# Altium footprint library RFIDComponentLibrary.PcbLib: 21 footprints (part 1 of 2)
Each footprint in its own frame and in the unit in brackets; x right, y up, seen from the top. Pads: shape width x height; smd on the part's side, far side on the other; paste and mask are expansions set on the pad; w line width, h text height; cw(c..) or ccw(c..) is an arc to the next point about the centre after c.
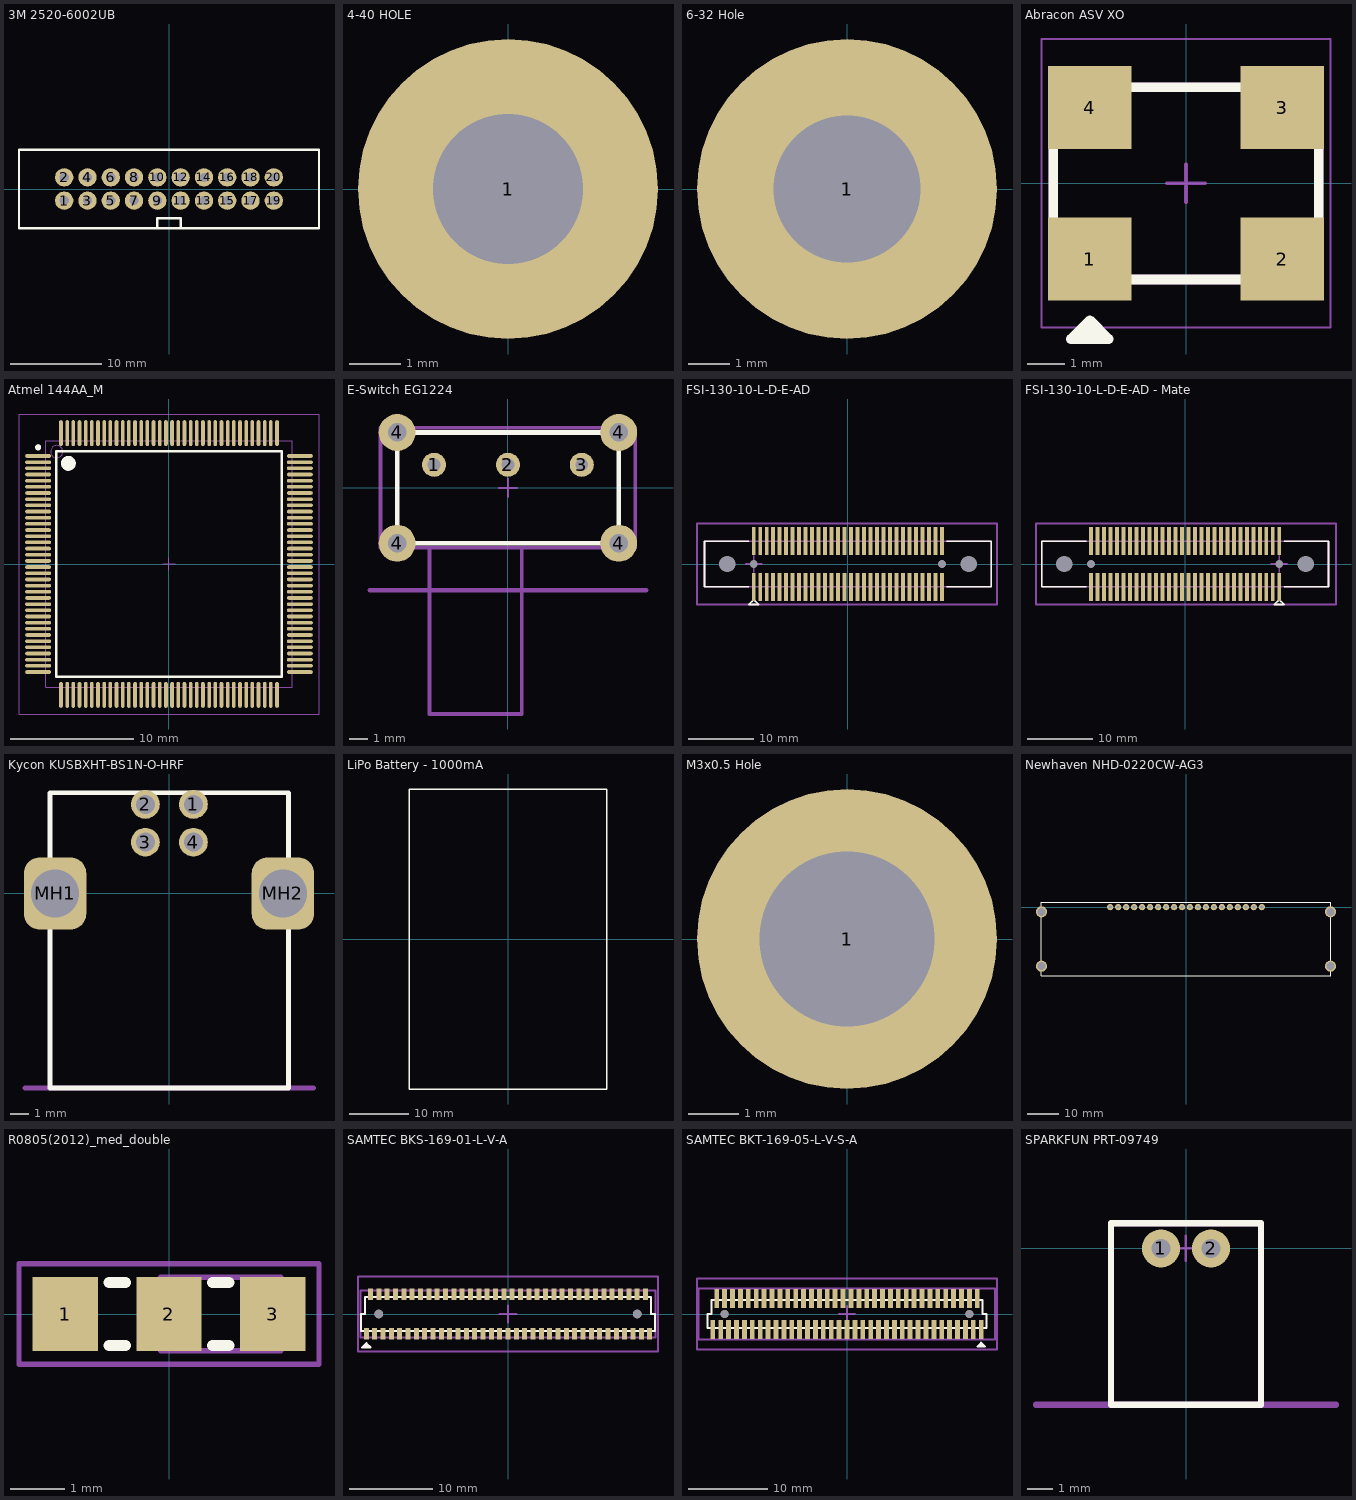
[diagram p0: the footprints below, top view; thin cyan lines are the x and y axes]

## 3M 2520-6002UB [mm] "SHROUDED HEADER 20 POS STRAIGHT"
height 9.91
pads (20):
  round 2 hole 1: 1(-11.43,-1.27) 2(-11.43,1.27) 3(-8.89,-1.27) 4(-8.89,1.27) 5(-6.35,-1.27) 6(-6.35,1.27) 7(-3.81,-1.27) 8(-3.81,1.27) 9(-1.27,-1.27) 10(-1.27,1.27) 11(1.27,-1.27) 12(1.27,1.27) 13(3.81,-1.27) 14(3.81,1.27) 15(6.35,-1.27) 16(6.35,1.27) 17(8.89,-1.27) 18(8.89,1.27) 19(11.43,-1.27) 20(11.43,1.27)
Top Overlay:
  lines w0.254: -1.27,-4.295 -1.27,-3.175 1.27,-3.175 1.27,-4.295 ; 14.224,4.295 16.36,4.295 16.36,-4.295 -16.36,-4.295 -16.36,4.295 14.986,4.295
3D body: height 2.34, standoff 0, extent -16.36,-4.295 16.36,4.295
3D body: height 9.91, standoff 2.34, extent 15.24,-4.295 16.36,4.295
3D body: height 9.91, standoff 2.34, extent -16.36,-4.295 -15.24,4.295
3D body: height 9.91, standoff 2.34, extent -15.24,3.175 15.24,4.295
3D body: height 9.91, standoff 0, extent -11.739,0.96 -11.119,1.58
3D body: height 9.91, standoff 0, extent -11.739,-1.58 -11.119,-0.96
3D body: height 9.91, standoff 0, extent -9.199,0.96 -8.579,1.58
3D body: height 9.91, standoff 0, extent -9.199,-1.58 -8.579,-0.96
3D body: height 9.91, standoff 0, extent -6.659,0.96 -6.039,1.58
3D body: height 9.91, standoff 0, extent -6.659,-1.58 -6.039,-0.96
3D body: height 9.91, standoff 0, extent -4.119,0.96 -3.499,1.58
3D body: height 9.91, standoff 0, extent -4.119,-1.58 -3.499,-0.96
3D body: height 9.91, standoff 0, extent -1.579,0.96 -0.959,1.58
3D body: height 9.91, standoff 0, extent -1.579,-1.58 -0.959,-0.96
3D body: height 9.91, standoff 0, extent 0.961,0.96 1.581,1.58
3D body: height 9.91, standoff 0, extent 0.961,-1.58 1.581,-0.96
3D body: height 9.91, standoff 0, extent 3.501,0.96 4.121,1.58
3D body: height 9.91, standoff 0, extent 3.501,-1.58 4.121,-0.96
3D body: height 9.91, standoff 0, extent 6.041,-1.58 6.661,-0.96
3D body: height 9.91, standoff 0, extent 6.041,0.96 6.661,1.58
3D body: height 9.91, standoff 0, extent 8.581,0.96 9.201,1.58
3D body: height 9.91, standoff 0, extent 8.581,-1.58 9.201,-0.96
3D body: height 9.91, standoff 0, extent 11.121,0.96 11.741,1.58
3D body: height 9.91, standoff 0, extent 11.121,-1.58 11.741,-0.96
3D body: height 9.91, standoff 2.34, extent -15.24,-4.295 -2.095,-3.175
3D body: height 9.91, standoff 2.34, extent 2.095,-4.295 15.24,-3.175

## 4-40 HOLE [mil] "A hole"
pads (1):
  round 230 hole 115: 1(0,0)

## 6-32 Hole [mil] "A hole"
pads (1):
  round 285 hole 140: 1(0,0)

## Abracon ASV XO [mm] "OSCILLATOR 16.000MHZ 3.3V SMD"
height 1.8
pads (4):
  rect 2.2x2.2 smd: 1(-2.54,-2) 2(2.54,-2) 3(2.54,2) 4(-2.54,2)
Top Overlay:
  lines w0.254: -2.64,-4.11 -2.34,-4.01 -2.54,-3.81 -3.04,-4.11 ; -3.04,-4.11 -2.54,-3.61 -2.04,-4.11 -3.04,-4.11 ; -3.5,-2.54 3.5,-2.54 3.5,2.54 -3.5,2.54 -3.5,-2.54
Mechanical 1:
  lines w0.254: -3.5,-2.54 ccw(c-3.5,-2.54) -3.5,-2.54 ; -3.5,-2.54 3.5,-2.54 ; -3.5,-2.54 -3.5,2.54 ; -3.5,2.54 ccw(c-3.5,2.54) -3.5,2.54 ; -3.5,2.54 3.5,2.54 ; 3.5,-2.54 ccw(c3.5,-2.54) 3.5,-2.54 ; 3.5,-2.54 3.5,2.54 ; 3.5,2.54 ccw(c3.5,2.54) 3.5,2.54
Mechanical 15:
  lines w0.05: -3.81,-3.81 -3.81,3.81 3.81,3.81 3.81,-3.81 -3.81,-3.81
  lines w0.1: -0.5,0 0.5,0 ; 0,-0.5 0,0.5
3D body: height 1.8, standoff 0, extent -3.5,-2.54 3.5,2.54

## Atmel 144AA_M [mm] "Thin QFP, 144-Leads, Body 20x20mm, Pitch 0.5mm, IPC Low Density"
height 1.6
pads (144):
  oval 2.1x0.3 smd: 1(-10.6,8.75) 2(-10.6,8.25) 3(-10.6,7.75) 4(-10.6,7.25) 5(-10.6,6.75) 6(-10.6,6.25) 7(-10.6,5.75) 8(-10.6,5.25) 9(-10.6,4.75) 10(-10.6,4.25) 11(-10.6,3.75) 12(-10.6,3.25) 13(-10.6,2.75) 14(-10.6,2.25) 15(-10.6,1.75) 16(-10.6,1.25) 17(-10.6,0.75) 18(-10.6,0.25) 19(-10.6,-0.25) 20(-10.6,-0.75) 21(-10.6,-1.25) 22(-10.6,-1.75) 23(-10.6,-2.25) 24(-10.6,-2.75) 25(-10.6,-3.25) 26(-10.6,-3.75) 27(-10.6,-4.25) 28(-10.6,-4.75) 29(-10.6,-5.25) 30(-10.6,-5.75) 31(-10.6,-6.25) 32(-10.6,-6.75) 33(-10.6,-7.25) 34(-10.6,-7.75) 35(-10.6,-8.25) 36(-10.6,-8.75) 73(10.6,-8.75) 74(10.6,-8.25) 75(10.6,-7.75) 76(10.6,-7.25) 77(10.6,-6.75) 78(10.6,-6.25) 79(10.6,-5.75) 80(10.6,-5.25) 81(10.6,-4.75) 82(10.6,-4.25) 83(10.6,-3.75) 84(10.6,-3.25) 85(10.6,-2.75) 86(10.6,-2.25) 87(10.6,-1.75) 88(10.6,-1.25) 89(10.6,-0.75) 90(10.6,-0.25) 91(10.6,0.25) 92(10.6,0.75) 93(10.6,1.25) 94(10.6,1.75) 95(10.6,2.25) 96(10.6,2.75) 97(10.6,3.25) 98(10.6,3.75) 99(10.6,4.25) 100(10.6,4.75) 101(10.6,5.25) 102(10.6,5.75) 103(10.6,6.25) 104(10.6,6.75) 105(10.6,7.25) 106(10.6,7.75) 107(10.6,8.25) 108(10.6,8.75)
  oval 0.3x2.1 smd: 37(-8.75,-10.6) 38(-8.25,-10.6) 39(-7.75,-10.6) 40(-7.25,-10.6) 41(-6.75,-10.6) 42(-6.25,-10.6) 43(-5.75,-10.6) 44(-5.25,-10.6) 45(-4.75,-10.6) 46(-4.25,-10.6) 47(-3.75,-10.6) 48(-3.25,-10.6) 49(-2.75,-10.6) 50(-2.25,-10.6) 51(-1.75,-10.6) 52(-1.25,-10.6) 53(-0.75,-10.6) 54(-0.25,-10.6) 55(0.25,-10.6) 56(0.75,-10.6) 57(1.25,-10.6) 58(1.75,-10.6) 59(2.25,-10.6) 60(2.75,-10.6) 61(3.25,-10.6) 62(3.75,-10.6) 63(4.25,-10.6) 64(4.75,-10.6) 65(5.25,-10.6) 66(5.75,-10.6) 67(6.25,-10.6) 68(6.75,-10.6) 69(7.25,-10.6) 70(7.75,-10.6) 71(8.25,-10.6) 72(8.75,-10.6) 109(8.75,10.6) 110(8.25,10.6) 111(7.75,10.6) 112(7.25,10.6) 113(6.75,10.6) 114(6.25,10.6) 115(5.75,10.6) 116(5.25,10.6) 117(4.75,10.6) 118(4.25,10.6) 119(3.75,10.6) 120(3.25,10.6) 121(2.75,10.6) 122(2.25,10.6) 123(1.75,10.6) 124(1.25,10.6) 125(0.75,10.6) 126(0.25,10.6) 127(-0.25,10.6) 128(-0.75,10.6) 129(-1.25,10.6) 130(-1.75,10.6) 131(-2.25,10.6) 132(-2.75,10.6) 133(-3.25,10.6) 134(-3.75,10.6) 135(-4.25,10.6) 136(-4.75,10.6) 137(-5.25,10.6) 138(-5.75,10.6) 139(-6.25,10.6) 140(-6.75,10.6) 141(-7.25,10.6) 142(-7.75,10.6) 143(-8.25,10.6) 144(-8.75,10.6)
Top Overlay:
  circle w0.6: c-8.15,8.15 r0.3
  circle w0.25: c-10.6,9.45 r0.125
  lines w0.2: -9.15,-9.15 9.15,-9.15 9.15,9.15 -9.15,9.15 -9.15,-9.15
Mechanical 13:
  circle w0.1: c-9.1,9.1 r0.5
  lines w0.1: -10,-10 10,-10 10,10 -10,10 -10,-10
Mechanical 15:
  lines w0.05: -12.15,-12.15 12.15,-12.15 12.15,12.15 -12.15,12.15 -12.15,-12.15
  lines w0.1: -0.5,0 0.5,0 ; 0,-0.5 0,0.5
3D body: height 1.6, standoff 0, extent -10,-10 10,10

## E-Switch EG1224 [mm] "SWITCH SLIDE SPDT 500MA 15V"
height 8.5
pads (7):
  round 1.3 hole 0.7: 1(-4,1.25) 2(0,1.25) 3(4,1.25)
  round 2 hole 1: 4(-6,-3) 4(-6,3) 4(6,-3) 4(6,3)
Top Overlay:
  lines w0.254: -6,-3 -6,3 6,3 6,-3 -6,-3
Mechanical 1:
  lines w0.2: -4.25,-3.25 -4.25,-12.25 0.75,-12.25 0.75,-3.25
Mechanical 13:
  lines w0.2: -6.9,-3.25 -6.9,3.25 6.9,3.25 6.9,-3.25 -6.9,-3.25
Mechanical 15:
  lines w0.1: -0.5,0 0.5,0 ; 0,-0.5 0,0.5
  lines w0.254: -7.49,-5.54 7.5,-5.54
  text "^ Edge ^" at -5.75,-4.5 h1.52
3D body: height 7.5, standoff 3.5, extent -4.25,-12.25 0.75,-3.25
3D body: height 8.5, standoff 0, extent -6.9,-3.25 6.9,3.25

## FSI-130-10-L-D-E-AD [mm] "CONN INTERFACE ONE PC 1MM 60POS"
height 11.01
pads (64):
  rect 0.61x4.318 smd: 1(-14.5,-3.55) 2(-14.5,3.55) 3(-13.5,-3.55) 4(-13.5,3.55) 5(-12.5,-3.55) 6(-12.5,3.55) 7(-11.5,-3.55) 8(-11.5,3.55) 9(-10.5,-3.55) 10(-10.5,3.55) 11(-9.5,-3.55) 12(-9.5,3.55) 13(-8.5,-3.55) 14(-8.5,3.55) 15(-7.5,-3.55) 16(-7.5,3.55) 17(-6.5,-3.55) 18(-6.5,3.55) 19(-5.5,-3.55) 20(-5.5,3.55) 21(-4.5,-3.55) 22(-4.5,3.55) 23(-3.5,-3.55) 24(-3.5,3.55) 25(-2.5,-3.55) 26(-2.5,3.55) 27(-1.5,-3.55) 28(-1.5,3.55) 29(-0.5,-3.55) 30(-0.5,3.55) 31(0.5,-3.55) 32(0.5,3.55) 33(1.5,-3.55) 34(1.5,3.55) 35(2.5,-3.55) 36(2.5,3.55) 37(3.5,-3.55) 38(3.5,3.55) 39(4.5,-3.55) 40(4.5,3.55) 41(5.5,-3.55) 42(5.5,3.55) 43(6.5,-3.55) 44(6.5,3.55) 45(7.5,-3.55) 46(7.5,3.55) 47(8.5,-3.55) 48(8.5,3.55) 49(9.5,-3.55) 50(9.5,3.55) 51(10.5,-3.55) 52(10.5,3.55) 53(11.5,-3.55) 54(11.5,3.55) 55(12.5,-3.55) 56(12.5,3.55) 57(13.5,-3.55) 58(13.5,3.55) 59(14.5,-3.55) 60(14.5,3.55)
  rect 0x0 hole 1.2 unplated: A1(-14.5,0) A2(14.5,0)
  rect 0x0 hole 2.54 unplated: M1(-18.62,0) M2(18.62,0)
Top Overlay:
  lines w0.254: -15.25,-3.5 -22.1,-3.5 -22.1,3.5 -15.25,3.5 ; 15.25,-3.5 22.1,-3.5 22.1,3.5 15.25,3.5 ; -15.25,-6.25 -14.5,-5.5 -13.75,-6.25 -14,-6.25 -15.25,-6.25
Mechanical 13:
  lines w0.254: -22.1,-3.5 22.1,-3.5 22.1,3.5 -22.1,3.5 -22.1,-3.5
Mechanical 15:
  lines w0.254: -15.75,0 -13.25,0 ; -14.5,-1.25 -14.5,1.25 ; -23.25,-6.25 -23.25,6.25 23,6.25 23,-6.25 -23.25,-6.25
3D body: height 11.01, standoff 0, extent -22.047,-5.156 22.047,5.156

## FSI-130-10-L-D-E-AD - Mate [mm] "CONN INTERFACE ONE PC 1MM 60POS"
height 11.01
pads (64):
  rect 0.61x4.318 smd: 1(14.5,-3.55) 2(14.5,3.55) 3(13.5,-3.55) 4(13.5,3.55) 5(12.5,-3.55) 6(12.5,3.55) 7(11.5,-3.55) 8(11.5,3.55) 9(10.5,-3.55) 10(10.5,3.55) 11(9.5,-3.55) 12(9.5,3.55) 13(8.5,-3.55) 14(8.5,3.55) 15(7.5,-3.55) 16(7.5,3.55) 17(6.5,-3.55) 18(6.5,3.55) 19(5.5,-3.55) 20(5.5,3.55) 21(4.5,-3.55) 22(4.5,3.55) 23(3.5,-3.55) 24(3.5,3.55) 25(2.5,-3.55) 26(2.5,3.55) 27(1.5,-3.55) 28(1.5,3.55) 29(0.5,-3.55) 30(0.5,3.55) 31(-0.5,-3.55) 32(-0.5,3.55) 33(-1.5,-3.55) 34(-1.5,3.55) 35(-2.5,-3.55) 36(-2.5,3.55) 37(-3.5,-3.55) 38(-3.5,3.55) 39(-4.5,-3.55) 40(-4.5,3.55) 41(-5.5,-3.55) 42(-5.5,3.55) 43(-6.5,-3.55) 44(-6.5,3.55) 45(-7.5,-3.55) 46(-7.5,3.55) 47(-8.5,-3.55) 48(-8.5,3.55) 49(-9.5,-3.55) 50(-9.5,3.55) 51(-10.5,-3.55) 52(-10.5,3.55) 53(-11.5,-3.55) 54(-11.5,3.55) 55(-12.5,-3.55) 56(-12.5,3.55) 57(-13.5,-3.55) 58(-13.5,3.55) 59(-14.5,-3.55) 60(-14.5,3.55)
  rect 0x0 hole 1.2 unplated: A1(14.5,0) A2(-14.5,0)
  rect 0x0 hole 2.54 unplated: M1(18.62,0) M2(-18.62,0)
Top Overlay:
  lines w0.254: -15.25,-3.5 -22.1,-3.5 -22.1,3.5 -15.25,3.5 ; 15.25,-3.5 22.1,-3.5 22.1,3.5 15.25,3.5 ; 13.75,-6.25 14.5,-5.5 15.25,-6.25 14,-6.25 13.75,-6.25
Mechanical 13:
  lines w0.254: -22.1,-3.5 -22.1,3.5 22.1,3.5 22.1,-3.5 -22.1,-3.5
Mechanical 15:
  lines w0.254: 13.25,0 15.75,0 ; 14.5,-1.25 14.5,1.25 ; -23,-6.25 -23,6.25 23.25,6.25 23.25,-6.25 -23,-6.25

## Kycon KUSBXHT-BS1N-O-HRF [mm] "CONN USB RECEPT R/A TYPE B 4POS"
height 11.39
pads (6):
  round 1.524 hole 1: 1(1.27,4.71) 2(-1.27,4.71) 3(-1.27,2.71) 4(1.27,2.71)
  rrect50% 3.302x3.81 hole 2.54: MH1(-6.04,0) MH2(6,0)
Top Overlay:
  lines w0.254: -6.3,-10.28 -6.3,5.32 6.3,5.32 6.3,-10.28 -6.3,-10.28
Mechanical 15:
  lines w0.254: -7.62,-10.28 7.62,-10.28
  text "^ Edge ^" at -5.842,-9.398 h1.52
3D body: height 11.39, standoff 0, extent -6.3,-10.28 6.3,5.32

## LiPo Battery - 1000mA [mm] "Polymer Lithium Ion Battery - 1000mAh"
height 5.8
Top Overlay:
  lines w0.254: -16.75,-25.4 16.75,-25.4 16.75,25.4 -16.75,25.4 -16.75,-25.4
3D body: height 5.8, standoff 0, extent -16.75,-25.4 16.75,25.4

## M3x0.5 Hole [mm] "A hole"
pads (1):
  round 6 hole 3.5: 1(0,0)

## Newhaven NHD-0220CW-AG3 [mm] "Slim Character OLED. 2 lines x 20 character Green OLED display. 2.8V or 5V power. 4/8-bit Parallel, SPI, or I2C MPU interface. 3 built-in font tables. Double height characters."
height 6.5
pads (24):
  round 2 hole 1: 1(24.13,0) 2(21.59,0) 3(19.05,0) 4(16.51,0) 5(13.97,0) 6(11.43,0) 7(8.89,0) 8(6.35,0) 9(3.81,0) 10(1.27,0) 11(-1.27,0) 12(-3.81,0) 13(-6.35,0) 14(-8.89,0) 15(-11.43,0) 16(-13.97,0) 17(-16.51,0) 18(-19.05,0) 19(-21.59,0) 20(-24.13,0)
  round 3.5 hole 2.5: MH1(-46,-1.5) MH2(46,-1.5) MH3(-46,-18.8) MH4(46,-18.8)
Top Overlay:
  lines w0.254: -46,-18.8 -46,-21.8 ; -46,-1.5 -46,1.5 ; 46,-1.5 46,1.5 ; -46,-21.8 46,-21.8 46,1.5 ; -46,-21.8 -46,1.5 ; -46,1.5 46,1.5
Mechanical 1:
  text "2x20 Text Goes Here" at -13.97,-11.43 h1.52
3D body: height 10, standoff 4, extent -45.72,-21.59 45.72,1.27

## R0805(2012)_med_double [mm] "Chip Resistor, 2-Leads, Body 2.0x1.3mm, IPC Medium Density"
height 0.7
pads (3):
  rect 1.2x1.35 smd: 1(-1.9,0) 2(0,0) 3(1.9,0)
Top Overlay:
  lines w0.2: -1.1,-0.575 -0.8,-0.575 ; -1.1,0.575 -0.8,0.575 ; 0.8,-0.575 1.1,-0.575 ; 0.8,0.575 1.1,0.575
Mechanical 13:
  lines w0.1: -0.15,-0.675 2.05,-0.675 2.05,0.675 -0.15,0.675 -0.15,-0.675
Mechanical 15:
  lines w0.1: -0.5,0 0.5,0 ; 0,-0.5 0,0.5 ; -2.75,-0.925 2.75,-0.925 2.75,0.925 -2.75,0.925 -2.75,-0.925
3D body: height 0.7, standoff 0, extent -0.15,-0.675 2.05,0.675

## SAMTEC BKS-169-01-L-V-A [mm] "Polarized Micro Socket"
height 2.12
pads (71):
  rect 0.61x1.375 smd: 1(-17,-2.362) 2(-16.5,2.362) 3(-16,-2.362) 4(-15.5,2.362) 5(-15,-2.362) 6(-14.5,2.362) 7(-14,-2.362) 8(-13.5,2.362) 9(-13,-2.362) 10(-12.5,2.362) 11(-12,-2.362) 12(-11.5,2.362) 13(-11,-2.362) 14(-10.5,2.362) 15(-10,-2.362) 16(-9.5,2.362) 17(-9,-2.362) 18(-8.5,2.362) 19(-8,-2.362) 20(-7.5,2.362) 21(-7,-2.362) 22(-6.5,2.362) 23(-6,-2.362) 24(-5.5,2.362) 25(-5,-2.362) 26(-4.5,2.362) 27(-4,-2.362) 28(-3.5,2.362) 29(-3,-2.362) 30(-2.5,2.362) 31(-2,-2.362) 32(-1.5,2.362) 33(-1,-2.362) 34(-0.5,2.362) 35(0,-2.362) 36(0.5,2.362) 37(1,-2.362) 38(1.5,2.362) 39(2,-2.362) 40(2.5,2.362) 41(3,-2.362) 42(3.5,2.362) 43(4,-2.362) 44(4.5,2.362) 45(5,-2.362) 46(5.5,2.362) 47(6,-2.362) 48(6.5,2.362) 49(7,-2.362) 50(7.5,2.362) 51(8,-2.362) 52(8.5,2.362) 53(9,-2.362) 54(9.5,2.362) 55(10,-2.362) 56(10.5,2.362) 57(11,-2.362) 58(11.5,2.362) 59(12,-2.362) 60(12.5,2.362) 61(13,-2.362) 62(13.5,2.362) 63(14,-2.362) 64(14.5,2.362) 65(15,-2.362) 66(15.5,2.362) 67(16,-2.362) 68(16.5,2.362) 69(17,-2.362)
  round 1.02 hole 1.02 unplated mask+0: AH1(-15.5,0) AH2(15.5,0)
Top Overlay:
  region: -17,-4 -16.823,-3.823 -17,-3.646 -17.177,-3.823
  region: -16.823,-4 -16.646,-3.823 -16.823,-3.646 -17,-3.823
  region: -17.177,-4 -17,-3.823 -17.177,-3.646 -17.354,-3.823
  lines w0.254: -17.655,-2.055 -17.655,0 -17.155,0 -17.155,2.055 17.155,2.055 17.155,0 17.655,0 17.655,-2.055 -17.655,-2.055 ; -17.5,-4 -16.5,-4 -17,-3.5 -17.5,-4
Mechanical 13:
  lines w0.254: -17.7,-2.8 17.7,-2.8 17.7,2.8 -17.7,2.8 -17.7,-2.8
Mechanical 15:
  lines w0.254: -1,0 1,0 ; 0,-1 0,1 ; -18,-4.5 2.5,-4.5 18,-4.5 18,4.5 -18,4.5 -18,-4.5
3D body "BKS-169-01-L-V-A.stp": height 2.22, standoff -1.06, extent -17.669,-2.794 17.67,2.794

## SAMTEC BKT-169-05-L-V-S-A [mm] "Polarized Micro Header"
height 6.78
pads (71):
  rect 0.61x2.44 smd: 1(17,-1.955) 2(16.5,1.955) 3(16,-1.955) 4(15.5,1.955) 5(15,-1.955) 6(14.5,1.955) 7(14,-1.955) 8(13.5,1.955) 9(13,-1.955) 10(12.5,1.955) 11(12,-1.955) 12(11.5,1.955) 13(11,-1.955) 14(10.5,1.955) 15(10,-1.955) 16(9.5,1.955) 17(9,-1.955) 18(8.5,1.955) 19(8,-1.955) 20(7.5,1.955) 21(7,-1.955) 22(6.5,1.955) 23(6,-1.955) 24(5.5,1.955) 25(5,-1.955) 26(4.5,1.955) 27(4,-1.955) 28(3.5,1.955) 29(3,-1.955) 30(2.5,1.955) 31(2,-1.955) 32(1.5,1.955) 33(1,-1.955) 34(0.5,1.955) 35(0,-1.955) 36(-0.5,1.955) 37(-1,-1.955) 38(-1.5,1.955) 39(-2,-1.955) 40(-2.5,1.955) 41(-3,-1.955) 42(-3.5,1.955) 43(-4,-1.955) 44(-4.5,1.955) 45(-5,-1.955) 46(-5.5,1.955) 47(-6,-1.955) 48(-6.5,1.955) 49(-7,-1.955) 50(-7.5,1.955) 51(-8,-1.955) 52(-8.5,1.955) 53(-9,-1.955) 54(-9.5,1.955) 55(-10,-1.955) 56(-10.5,1.955) 57(-11,-1.955) 58(-11.5,1.955) 59(-12,-1.955) 60(-12.5,1.955) 61(-13,-1.955) 62(-13.5,1.955) 63(-14,-1.955) 64(-14.5,1.955) 65(-15,-1.955) 66(-15.5,1.955) 67(-16,-1.955) 68(-16.5,1.955) 69(-17,-1.955)
  round 1.02 hole 1.02 unplated mask+0: AH1(-15.5,0) AH2(15.5,0)
Top Overlay:
  region: 17,-4.138 17.177,-3.961 17,-3.784 16.823,-3.961
  region: 17.177,-4.138 17.354,-3.961 17.177,-3.784 17,-3.961
  region: 16.823,-4.138 17,-3.961 16.823,-3.784 16.646,-3.961
  lines w0.254: -17.655,-1.8 17.655,-1.8 17.655,0 17.155,0 17.155,1.8 -17.155,1.8 -17.155,0 -17.655,0 -17.655,-1.8 ; 16.5,-4.137 17.5,-4.137 17,-3.638 16.5,-4.137
Mechanical 13:
  lines w0.254: -18.8,-3.2 -18.8,3.2 18.719,3.2 18.719,-3.2 -18.8,-3.2
Mechanical 15:
  lines w0.254: -1,0 1,0 ; 0,-1 0,1 ; -19,-4.5 -19,4.5 19,4.5 19,-4.5 2.5,-4.5 -19,-4.5
3D body "BKT-169-05-L-V-S-A.stp": height 6.78, standoff -1.2, extent -18.719,-3.175 18.719,3.175

## SPARKFUN PRT-09749 [mil] "JST Right-Angle Connector - Through-Hole 2-Pin"
height 196.85
pads (2):
  round 60 hole 30: 1(-39.37,0) 2(39.37,0)
Top Overlay:
  lines w10: -118.11,-246.06 -118.11,0 -118.11,39.37 118.11,39.37 118.11,0 118.11,-246.06 -118.11,-246.06
Mechanical 1:
  lines w10: -118.11,-246.06 118.11,-246.06 118.11,39.37 -118.11,39.37 -118.11,-246.06
Mechanical 15:
  lines w3.94: -19.69,0 19.68,0 ; 0,-19.69 0,19.68
  lines w10: -236.22,-246.06 236.22,-246.06
  text "^ Edge ^" at -236.22,-215.35 h60
3D body: height 196.85, standoff 0, extent -118.11,-246.06 118.11,39.37